# Altium footprint library Christmas-2023_Soundboard.PcbLib: 27 footprints (part 1 of 2)
Each footprint in its own frame and in the unit in brackets; x right, y up, seen from the top. Pads: shape width x height; smd on the part's side, far side on the other; paste and mask are expansions set on the pad; w line width, h text height; cw(c..) or ccw(c..) is an arc to the next point about the centre after c.
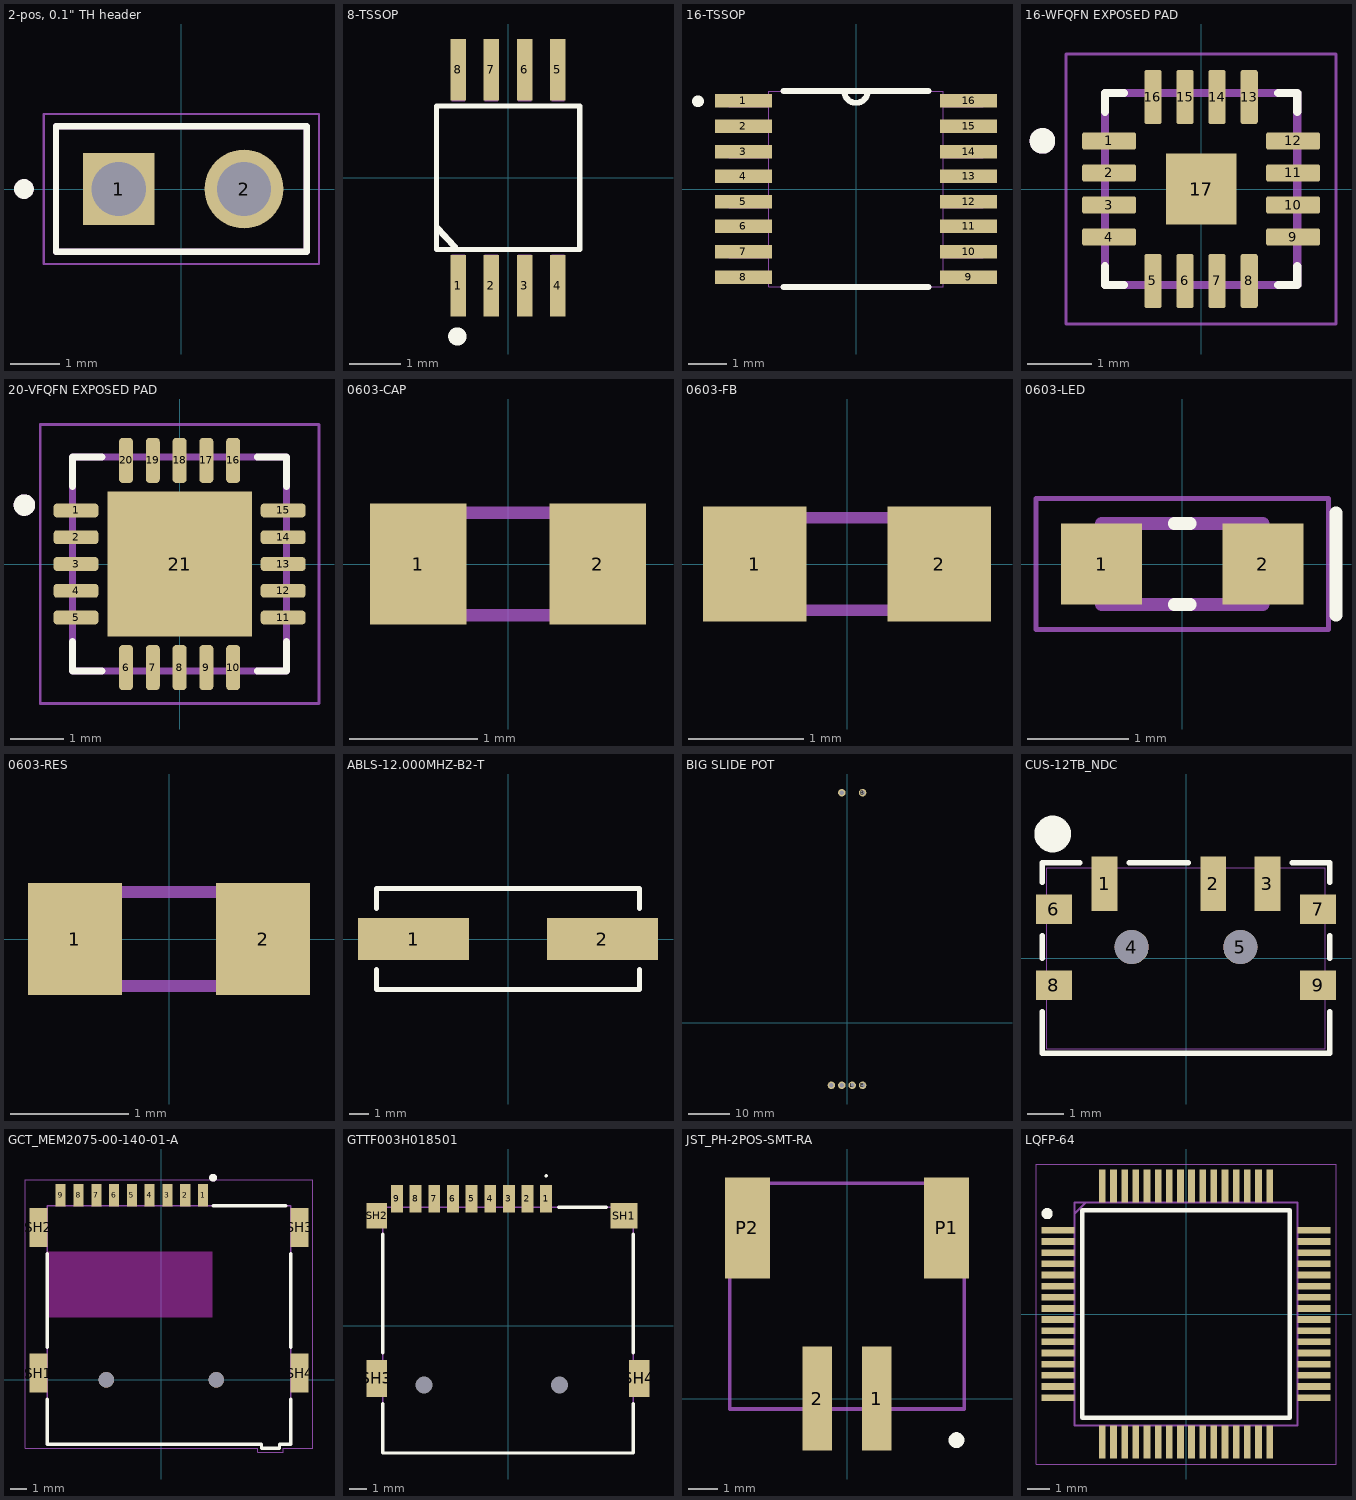
[diagram p0: the footprints below, top view; thin cyan lines are the x and y axes]

## 2-pos, 0.1" TH header [mm]
pads (2):
  rect 1.45x1.45 / inner round 1.45 / far side rect 1.45x1.45 hole 1.1: 1(-1.27,0)
  round 1.6 hole 1.1: 2(1.27,0)
Top Overlay:
  circle w0.2: c-3.19,0 r0.1
  lines w0.127: -2.54,-1.27 -2.54,1.27 2.54,1.27 2.54,-1.27 -2.54,-1.27
Mechanical 13:
  circle w0.2: c-3.19,0 r0.1
  lines w0.127: -2.54,-1.27 -2.54,1.27 2.54,1.27 2.54,-1.27 -2.54,-1.27
Mechanical 15:
  lines w0.05: -2.79,-1.52 -2.79,1.52 2.79,1.52 2.79,-1.52 -2.79,-1.52
3D body "61300211121.stp": height 8.57, standoff -2.97, extent -2.57,-1.26 2.51,1.28

## 8-TSSOP [mm]
pads (8):
  rect 0.3x1.2 smd mask+0.076: 1(-0.976,-2.113) 2(-0.326,-2.113) 3(0.324,-2.113) 4(0.974,-2.113) 5(0.974,2.112) 6(0.324,2.112) 7(-0.326,2.112) 8(-0.976,2.112)
Top Overlay:
  circle w0.254: c-0.991,-3.099 r0.051
  lines w0.025: -1.375,-0.989 -1.372,-0.889
  lines w0.102: -1.4,-1.4 1.4,-1.4 1.4,1.4 -1.4,1.4 -1.4,-1.4
  lines w0.127: -1.375,-0.989 -1.041,-1.346
Mechanical 13:
  region: -0.85,-2.5 -1.1,-2.5 -1.1,-1.5 -0.85,-1.5
  region: -0.2,-2.5 -0.45,-2.5 -0.45,-1.5 -0.2,-1.5
  region: 0.45,-2.5 0.2,-2.5 0.2,-1.5 0.45,-1.5
  region: 0.45,-2.5 0.2,-2.5 0.2,-1.5 0.45,-1.5
  region: 1.1,-2.5 0.85,-2.5 0.85,-1.5 1.1,-1.5
  region: 1.1,1.5 0.85,1.5 0.85,2.5 1.1,2.5
  region: 0.45,1.5 0.2,1.5 0.2,2.5 0.45,2.5
  region: -0.2,1.5 -0.45,1.5 -0.45,2.5 -0.2,2.5
  region: -0.85,1.5 -1.1,1.5 -1.1,2.5 -0.85,2.5
3D body "PAM8304ASR.STEP": height 1.1, standoff 0, extent -1.506,-2.45 1.494,2.45

## 16-TSSOP [mil]
pads (16):
  rect 58x14 smd: 1(-115,90) 2(-115,64) 3(-115,38) 4(-115,13) 5(-115,-13) 6(-115,-38) 7(-115,-64) 8(-115,-90) 9(115,-90) 10(115,-64) 11(115,-38) 12(115,-13) 13(115,13) 14(115,38) 15(115,64) 16(115,90)
Top Overlay:
  lines w6: -74,-100 74,-100 ; -74,100 -12,100 ; 74,100 12,100 ; -12,100 ccw(c0,100) 12,100 ; -12,100 12,100
  lines w10: -160.43,89.57 cw(c-161.42,89.57) -160.46,89.81
Mechanical 13:
  lines w0: -12,100 ccw(c0,100) 12,100 ; -12,100 -89,100 -89,-100 89,-100 89,100 12,100 ; -12,100 12,100 ; -130,-95 -89,-95 -89,-84 -130,-84 -130,-95 ; -130,-70 -89,-70 -89,-58 -130,-58 -130,-70 ; -130,-44 -89,-44 -89,-32 -130,-32 -130,-44 ; -130,-19 -89,-19 -89,-7 -130,-7 -130,-19 ; -130,7 -89,7 -89,19 -130,19 -130,7 ; -130,32 -89,32 -89,44 -130,44 -130,32 ; -130,58 -89,58 -89,70 -130,70 -130,58 ; -130,84 -89,84 -89,95 -130,95 -130,84 ; 89,-95 130,-95 130,-84 89,-84 89,-95 ; 89,-70 130,-70 130,-58 89,-58 89,-70 ; 89,-44 130,-44 130,-32 89,-32 89,-44 ; 89,-19 130,-19 130,-7 89,-7 89,-19 ; 89,7 130,7 130,19 89,19 89,7 ; 89,32 130,32 130,44 89,44 89,32 ; 89,58 130,58 130,70 89,70 89,58 ; 89,84 130,84 130,95 89,95 89,84
3D body "step_temp.STEP": height 43.31, standoff 0, extent -125.98,-98.43 125.98,98.43

## 16-WFQFN EXPOSED PAD [mm]
pads (17):
  rrect25% 0.84x0.27 smd mask+0.051: 1(-1.435,0.75) 2(-1.435,0.25) 3(-1.435,-0.25) 4(-1.435,-0.75) 9(1.435,-0.75) 10(1.435,-0.25) 11(1.435,0.25) 12(1.435,0.75)
  rrect25% 0.27x0.84 smd mask+0.051: 5(-0.75,-1.435) 6(-0.25,-1.435) 7(0.25,-1.435) 8(0.75,-1.435) 13(0.75,1.435) 14(0.25,1.435) 15(-0.25,1.435) 16(-0.75,1.435)
  rect 1.1x1.1 smd paste-0.2 mask+0.051: 17(0,0)
Top Overlay:
  circle w0.2: c-2.475,0.75 r0.1
  lines w0.127: -1.5,-1.205 -1.5,-1.5 -1.205,-1.5 ; -1.5,1.205 -1.5,1.5 -1.205,1.5 ; 1.205,-1.5 1.5,-1.5 1.5,-1.205 ; 1.205,1.5 1.5,1.5 1.5,1.205
Mechanical 13:
  circle w0.2: c-2.475,0.75 r0.1
  lines w0.127: -1.5,-1.5 -1.5,1.5 1.5,1.5 1.5,-1.5 -1.5,-1.5
Mechanical 15:
  lines w0.05: -2.105,-2.105 -2.105,2.105 2.105,2.105 2.105,-2.105 -2.105,-2.105
3D body "MAX98357AETE+T.stp": height 0.8, standoff 0, extent -1.55,-1.551 1.55,1.549

## 20-VFQFN EXPOSED PAD [mm]
pads (21):
  rrect50% 0.84x0.26 smd mask+0.051: 1(-1.935,1) 2(-1.935,0.5) 3(-1.935,0) 4(-1.935,-0.5) 5(-1.935,-1) 11(1.935,-1) 12(1.935,-0.5) 13(1.935,0) 14(1.935,0.5) 15(1.935,1)
  rrect50% 0.26x0.84 smd mask+0.051: 6(-1,-1.935) 7(-0.5,-1.935) 8(0,-1.935) 9(0.5,-1.935) 10(1,-1.935) 16(1,1.935) 17(0.5,1.935) 18(0,1.935) 19(-0.5,1.935) 20(-1,1.935)
  rect 2.7x2.7 smd paste-2 mask+0.051: 21(0,0)
Top Overlay:
  circle w0.2: c-2.9,1.1 r0.1
  lines w0.127: -2,-1.45 -2,-2 -1.45,-2 ; -2,1.45 -2,2 -1.45,2 ; 1.45,-2 2,-2 2,-1.45 ; 1.45,2 2,2 2,1.45
Top Paste:
  region: -0.13,0.13 -1.09,0.13 -1.09,1.09 -0.13,1.09
  region: 1.09,0.13 0.13,0.13 0.13,1.09 1.09,1.09
  region: -0.13,-1.09 -1.09,-1.09 -1.09,-0.13 -0.13,-0.13
  region: 1.09,-1.09 0.13,-1.09 0.13,-0.13 1.09,-0.13
Mechanical 13:
  circle w0.2: c-2.9,1.1 r0.1
  lines w0.127: -2,-2 -2,2 2,2 2,-2 -2,-2
Mechanical 15:
  lines w0.05: -2.605,-2.605 2.605,-2.605 2.605,2.605 -2.605,2.605 -2.605,-2.605
3D body "step_temp.STEP": height 1, standoff 0, extent -2,-2 2,2

## 0603-CAP [mm]
pads (2):
  rect 0.75x0.94 smd: 1(-0.7,0) 2(0.7,0)
Mechanical 15:
  lines w0.1: -0.8,-0.4 0.8,-0.4 0.8,0.4 -0.8,0.4 -0.8,-0.4
3D body "GRM1887U1HR50CD01D.stp": height 0.9, standoff 0, extent -0.8,-0.4 0.8,0.4

## 0603-FB [mm]
pads (2):
  rect 0.9x1 smd: 1(-0.8,0) 2(0.8,0)
Mechanical 15:
  lines w0.1: -0.8,-0.4 -0.8,0.4 0.8,0.4 0.8,-0.4 -0.8,-0.4
3D body "PE-0603PFB121ST.stp": height 0.81, standoff 0.01, extent -0.8,-0.467 0.8,0.483

## 0603-LED [mm]
pads (2):
  rect 0.8x0.8 smd: 1(-0.8,0) 2(0.8,0)
Top Overlay:
  lines w0.127: -0.08,-0.4 0.08,-0.4 ; -0.08,0.4 0.08,0.4 ; 1.524,-0.508 1.524,0.508
Mechanical 13:
  lines w0.127: -0.8,-0.4 -0.8,0.4 0.8,0.4 0.8,-0.4 -0.8,-0.4
Mechanical 15:
  lines w0.05: -1.45,-0.65 -1.45,0.65 1.45,0.65 1.45,-0.65 -1.45,-0.65
3D body "WL-SMCW SMT LED WURTH ELEKTRONIK 0603.step": height 0.7, standoff 0, extent -0.8,-0.35 0.8,0.35

## 0603-RES [mm]
pads (2):
  rect 0.8x0.95 smd: 1(-0.8,0) 2(0.8,0)
Mechanical 15:
  lines w0.1: -0.8,-0.4 0.8,-0.4 0.8,0.4 -0.8,0.4 -0.8,-0.4
3D body "RC0603JR-0710KL.stp": height 0.55, standoff 0, extent -0.8,-0.4 0.8,0.4

## ABLS-12.000MHZ-B2-T [mil]
pads (2):
  rect 220x83 smd: 1(-187,0) 2(187,0)
Top Overlay:
  lines w10: -260,-60 -260,-100 260,-100 260,-60 ; -260,60 -260,100 260,100 260,60
3D body "ABLS-12.000MHZ-B2-T.stp": height 166.06, standoff 0.7, extent -250,-92.52 250,92.52

## BIG SLIDE POT [mil] "PTL60-15R0-103B2"
pads (6):
  round 70 hole 43: B(147,2165.5) CTRL(-147,-590.5) E(147,-590.5) IN(-49,-590.5) L(49,-590.5) OUT(-49,2165.5)
3D body "PTL60-15R0-103B2.STEP": height 905.51, standoff -157.48, extent -177.17,-690 177.17,2262.76

## CUS-12TB_NDC [mil]
pads (9):
  rect 28x59 smd paste+0 mask+0: 1(-88.58,80.78) 2(29.53,80.78) 3(88.58,80.78)
  round 37 / inner round 60 / far side round 37 hole 37 unplated paste-99999 mask-18.5: 4(-59.06,11.89) 5(59.06,11.89)
  rect 39x32 smd paste-19.5 mask-19.5: 6(-143.7,53.22) 7(143.7,53.22) 8(-143.7,-29.45) 9(143.7,-29.45)
Top Overlay:
  circle w20: c-145,135 r10
  lines w6: -156.5,-58.55 -156.5,-103.5 156.5,-103.5 156.5,-58.55 ; -156.5,-0.35 -156.5,24.12 ; -156.5,82.32 -156.5,103.5 -115.68,103.5 ; -61.48,103.5 2.43,103.5 ; 115.68,103.5 156.5,103.5 156.5,82.32 ; 156.5,-0.35 156.5,24.12
Mechanical 13:
  lines w1: -151.5,-98.5 -151.5,98.5 151.5,98.5 151.5,-98.5 -151.5,-98.5
3D body "CUS-12TB.step": height 55.12, standoff -19.68, extent -151.57,-97.24 151.57,99.61

## GCT_MEM2075-00-140-01-A [mm]
pads (15):
  rect 0.62x1.4 smd: 1(2.58,11.42) 2(1.48,11.42) 3(0.38,11.42) 4(-0.72,11.42) 5(-1.82,11.42) 6(-2.92,11.42) 7(-4.02,11.42) 8(-5.12,11.42) 9(-6.22,11.42)
  rect 1.1x2.4 smd: SH1(-7.6,0.42) SH2(-7.6,9.42) SH3(8.55,9.42) SH4(8.55,0.42)
  round 0.95 hole 0.95 unplated: ""(-3.4,0) ""(3.4,0)
Top Overlay:
  circle w0.24: c3.2,12.5 r0.12
  lines w0.2: -7.05,-1.2 -7.05,-3.98 6.2,-3.98 6.2,-4.23 7.3,-4.23 7.3,-3.98 8,-3.98 8,-1.2 ; -7.05,2 -7.05,7.8 ; 3.2,10.77 7.7,10.77 ; 8,2 8,7.8
Keep-Out Layer:
  region: 3.15,3.87 -7.05,3.87 -7.05,7.92 3.15,7.92
Mechanical 13:
  circle w0.24: c3.2,12.5 r0.12
  lines w0.1: -7.05,-3.98 6.2,-3.98 6.2,-4.23 7.3,-4.23 7.3,-3.98 8,-3.98 8,10.77 -7.05,10.77 -7.05,-3.98
Mechanical 15:
  lines w0.05: -8.4,-4.23 -8.4,12.37 9.35,12.37 9.35,-4.23 7.55,-4.23 7.55,-4.48 5.95,-4.48 5.95,-4.23 -8.4,-4.23
3D body "MEM2075-00-140-01-A--3DModel-STEP-56544.STEP": height 1.45, standoff -0.6, extent -7.74,-4.24 8.7,11.61

## GTTF003H018501 [mm]
pads (15):
  rect 0.7x1.6 smd: 1(2.25,7.5) 2(1.15,7.5) 3(0.05,7.5) 4(-1.05,7.5) 5(-2.15,7.5) 6(-3.25,7.5) 7(-4.35,7.5) 8(-5.45,7.5) 9(-6.55,7.5)
  round 0.5 hole 1 unplated: MH1(3.05,-3.5) MH2(-4.95,-3.5)
  rect 1.6x1.5 smd: SH1(6.85,6.5)
  rect 1.2x1.5 smd: SH2(-7.75,6.5)
  rect 1.2x2.2 smd: SH3(-7.75,-3.1) SH4(7.75,-3.1)
Top Overlay:
  lines w0.1: 2.25,8.8 cw(c2.25,8.85) 2.25,8.9 cw(c2.25,8.85) 2.25,8.8
  lines w0.2: -7.395,-4.6 -7.395,-7.5 7.395,-7.5 7.395,-4.6 ; -7.395,-1.6 -7.395,5.4 ; 3,7 5.8,7 ; 7.395,5.4 7.4,-1.6
Mechanical 15:
  lines w0.1: -7.395,-7.5 -7.395,7 7.395,7 7.395,-7.5 -7.395,-7.5
3D body "MEM2075-00-140-01-A.stp": height 1.4, standoff -0.6, extent -8.115,-7.75 8.325,8.1

## JST_PH-2POS-SMT-RA [mm]
pads (4):
  rect 1x3.5 smd: 1(1,0) 2(-1,0)
  rect 1.5x3.4 smd: P1(3.35,5.75) P2(-3.35,5.75)
Top Overlay:
  circle w0.279: c3.683,-1.397 r0.127
Mechanical 13:
  lines w0.127: -3.95,-0.35 -3.95,7.25 3.95,7.25 3.95,-0.35 -3.95,-0.35

## LQFP-64 [mm]
pads (64):
  rect 1.475x0.3 smd mask+0.051: 1(-5.738,3.75) 2(-5.738,3.25) 3(-5.738,2.75) 4(-5.738,2.25) 5(-5.738,1.75) 6(-5.738,1.25) 7(-5.738,0.75) 8(-5.738,0.25) 9(-5.738,-0.25) 10(-5.738,-0.75) 11(-5.738,-1.25) 12(-5.738,-1.75) 13(-5.738,-2.25) 14(-5.738,-2.75) 15(-5.738,-3.25) 16(-5.738,-3.75) 33(5.738,-3.75) 34(5.738,-3.25) 35(5.738,-2.75) 36(5.738,-2.25) 37(5.738,-1.75) 38(5.738,-1.25) 39(5.738,-0.75) 40(5.738,-0.25) 41(5.738,0.25) 42(5.738,0.75) 43(5.738,1.25) 44(5.738,1.75) 45(5.738,2.25) 46(5.738,2.75) 47(5.738,3.25) 48(5.738,3.75)
  rect 0.3x1.475 smd mask+0.051: 17(-3.75,-5.738) 18(-3.25,-5.738) 19(-2.75,-5.738) 20(-2.25,-5.738) 21(-1.75,-5.738) 22(-1.25,-5.738) 23(-0.75,-5.738) 24(-0.25,-5.738) 25(0.25,-5.738) 26(0.75,-5.738) 27(1.25,-5.738) 28(1.75,-5.738) 29(2.25,-5.738) 30(2.75,-5.738) 31(3.25,-5.738) 32(3.75,-5.738) 49(3.75,5.738) 50(3.25,5.738) 51(2.75,5.738) 52(2.25,5.738) 53(1.75,5.738) 54(1.25,5.738) 55(0.75,5.738) 56(0.25,5.738) 57(-0.25,5.738) 58(-0.75,5.738) 59(-1.25,5.738) 60(-1.75,5.738) 61(-2.25,5.738) 62(-2.75,5.738) 63(-3.25,5.738) 64(-3.75,5.738)
Top Overlay:
  circle w0.25: c-6.225,4.5 r0.125
  lines w0.2: -4.65,-4.65 -4.65,4.65 4.65,4.65 4.65,-4.65 -4.65,-4.65
Mechanical 15:
  lines w0.1: -5,4.5 -4.5,5 ; -5,-5 -5,5 5,5 5,-5 -5,-5
Mechanical 20:
  lines w0.05: -6.725,-6.725 -6.725,6.725 6.725,6.725 6.725,-6.725 -6.725,-6.725
3D body "STM32F103RCT6.stp": height 1.6, standoff 0, extent -6,-6 6,6